# EAGLE library part 418127160904 (library EAGLE-TACT_SWITCHES-rev16e)
WS-DITV THT version flat actuator with top tape sealed Specification Contact Rating Switching :25mA, 24VDC Non-Switching : 100mA, 50VDC Contact Resistance Initial: 50mΩ max. After life test: 100mΩ max. Insulation Resistance: min.100MΩ at 500VDC Dielectric Strength : 500VAC for 1 minute Operation Force :600g max. Mechanical Life : 2000 cycles Electrical Life : 2000 cycles / 25mA, 24VDC Raise Actuator type Material Cover : : PA9T UL 94 V-0, color Black Base :PA9T UL 94 V-0, color Black. Actuator :PA46 UL 94 V-0, color White Contact : : Gold Plated Terminal : Gold Plated <http://katalog.we-online.de/media/images/v2/Family_WS-DITV_THT_FLAT_ACTUATOR_4181271609xx_4C.jpg> Details see: http://katalog.we-online.de/en/em/DITV_2_54_SMALL_COMPACT_THT_FLAT_ACTUATOR/S/4181271609?sid=338a3ff20b 2015 (C) Würth Elektronik
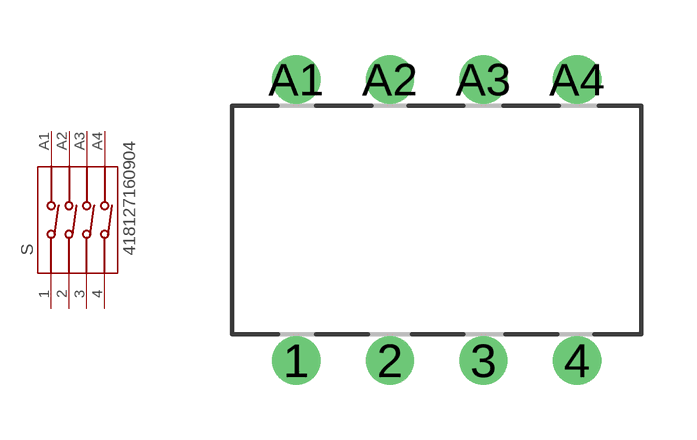
[diagram p129: symbol with the pads of 418127160904; footprint 418127160904]

Designator prefix S

## 418127160904  [418127160904]
1  1  pas
2  2  pas
3  3  pas
4  4  pas
A1  A1  pas
A2  A2  pas
A3  A3  pas
A4  A4  pas

## Footprint 418127160904 (pad centres in mm)
WS-DITV THT version flat actuator with top tape sealed 418127160904
drill 0.8: 1 -3.81,-3.81; 2 -1.27,-3.81; 3 1.27,-3.81; 4 3.81,-3.81; A1 -3.81,3.81; A2 -1.27,3.81; A3 1.27,3.81; A4 3.81,3.81